# EAGLE library part G6S-2-DC24 (library G6S-2-DC24)
Low Signal Relays - PCB ThruHole NonLatch 2A DPDT 24VDC 140mW Source: Datasheet <https://componentsearchengine.com/Datasheets/1/G6S-2-DC12.pdf>
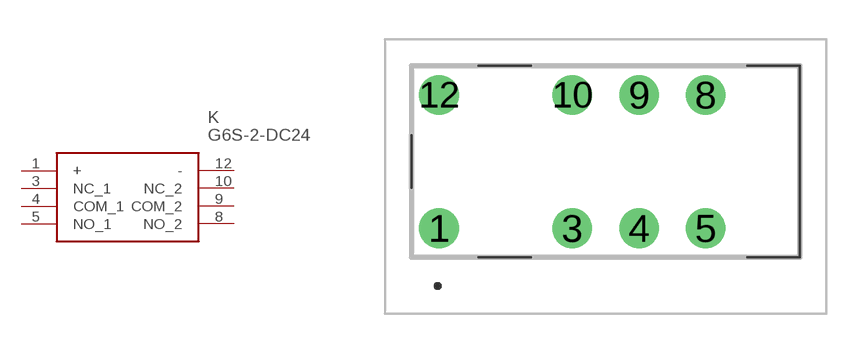
[diagram p0: symbol with the pads of G6S2DC12; footprint G6S2DC12]

Designator prefix K

## G6S-2-DC24 (Description: Low Signal Relays - PCB ThruHole NonLatch 2A DPDT 24VDC 140mW; Height: 9.4mm; Manufacturer_Name: Omron Electronics; Manufacturer_Part_Number: G6S-2-DC24; Mouser_Part_Number: 653-G6S-2-DC24; Mouser_Price-Stock: https://www.mouser.co.uk/ProductDetail/Omron-Electronics/G6S-2-DC24?qs=Pjd0UV7BHP8mvxbMA97mrw%3D%3D)  [G6S2DC12]
1  +
3  NC_1
4  COM_1
5  NO_1
8  NO_2
9  COM_2
10  NC_2
12  -

## Footprint G6S2DC12 (pad centres in mm)
G6S-2-DC12-2
drill 1 pad 1.5: 1 0,0; 3 5.08,0; 4 7.62,0; 5 10.16,0; 8 10.16,5.08; 9 7.62,5.08; 10 5.08,5.08; 12 0,5.08